# Altium footprint library PDIP-8-(7.62mm)-SOCKET.PcbLib: 1 footprints
Each footprint in its own frame and in the unit in brackets; x right, y up, seen from the top. Pads: shape width x height; smd on the part's side, far side on the other; paste and mask are expansions set on the pad; w line width, h text height; cw(c..) or ccw(c..) is an arc to the next point about the centre after c.
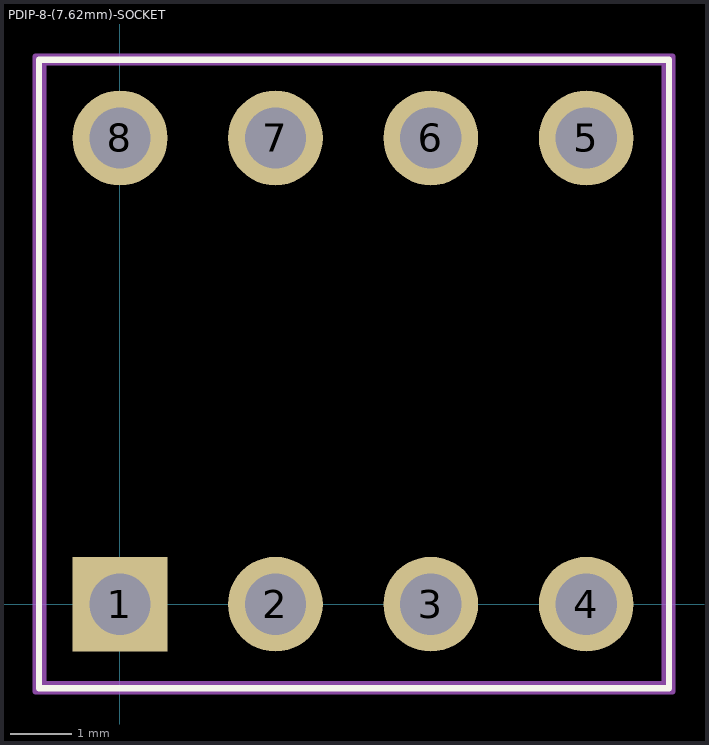
[diagram p0: the footprint, top view; thin cyan lines are the x and y axes]

## PDIP-8-(7.62mm)-SOCKET [mm]
pads (8):
  rect 1.55x1.55 hole 1: 1(0,0)
  round 1.55 hole 1: 2(2.54,0) 3(5.08,0) 4(7.62,0) 5(7.62,7.62) 6(5.08,7.62) 7(2.54,7.62) 8(0,7.62)
Top Overlay:
  lines w0.102: 7.62,0 7.625,0.005 ; -1.325,-1.375 -1.325,8.9 -1.3,8.9 8.975,8.9 8.975,-1.375 -1.325,-1.375
Mechanical 1:
  text ".Designator" at 0,1.27 h1
Mechanical 13:
  lines w0.102: -1.255,-1.305 -1.255,8.855 8.905,8.855 8.905,-1.305 -1.255,-1.305
Mechanical 15:
  lines w0.102: -1.375,-1.425 -1.375,8.95 9.025,8.95 9.025,-1.425 -1.375,-1.425
3D body: height 5.1, standoff -3.15, extent -1.255,-1.305 8.905,8.855